# Altium integrated library Infineon_Power_Supply_Voltage_Regulator.IntLib: 346 symbols (part 12 of 16)
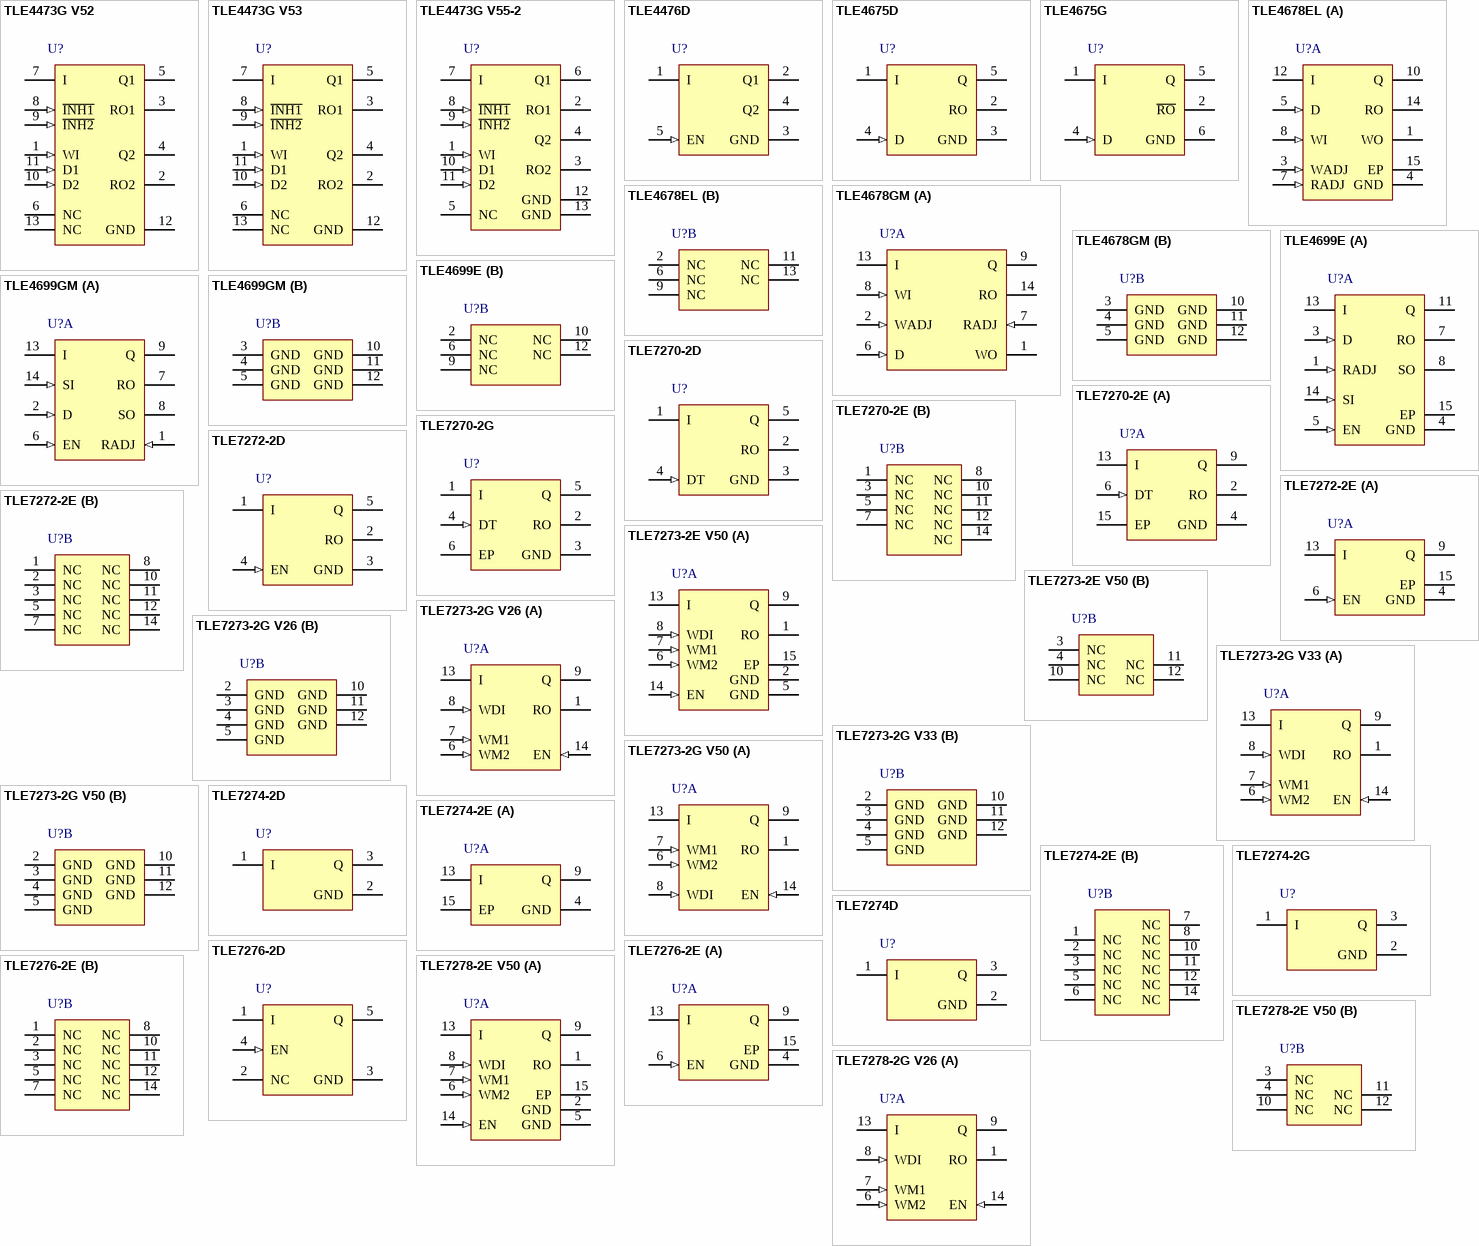
[diagram p20: symbols TLE4473G V52 to TLE7278-2G V26]

## TLE4678EL
designator U?
Low Drop Linear Voltage Regulator, 5.35 to 45 V Supply, 5 V Output, -40 to 150 degC, PG-SSOP-14, Reel, Green; Manufacturer: Infineon; PartNumber: TLE4678EL; Accuracy: 2 %; Dropout Voltage: 250 mV; Green: TRUE; Max. Output Current: 200 mA; Output Voltage: 5V; Regulator Type: single output; Typical Quiescent Current: 60 uA; DatasheetVersion: Rev. 1.1; PackageVersion: Oct-08; PackageReference: PG-SSOP-14; PackageDescription: 14-Pin Plastic (Green) Shrink Small Outline Package, 4.9 x 3.9 mm Body, 0.65 mm Pitch; Supplier 1: Mouser; Supplier Part Number 1: 726-TLE4678EL; Supplier 2: Digi-Key; Supplier Part Number 2: TLE4678EL-ND; Halogen-free: TRUE; Operating Range: 5.35 to 45 V; Packing: Reel; Mounting Technology: Surface Mount; ComponentLink1Description: Manufacturer URL; ComponentLink1URL: http://www.infineon.com/; ComponentLink2Description: Datasheet; ComponentLink2URL: http://www.infineon.com/dgdl/TLE4678_DS_11.pdf?folderId=db3a304318f3fe290118f5a433570040&fileId=db3a30432313ff5e01237603b059489e&location=en.Products.Automotive_ICs.Linear_Voltage_Regulators_for_Automotive-Applications.Linear_Voltage_Regulators_-_Selection_Table.DATASHEET.TLE4678_DS_11.pdf; ComponentLink3Description: Package Specification; ComponentLink3URL: http://www.infineon.com/dgdl/ILD1151-Data-Sheet-11-Infineon.pdf?folderId=db3a30431f848401011fcbf2ab4c04c4&fileId=db3a304330046413013031216f2b20e1&location=en.Products.LED_Drivers___Lighting_ICs.LED_Driver_for_Outdoor_Lighting___Indoor_Lighting.LED_Driver__Product_portfolio_and_Information.DATASHEET.ILD1151-Data-Sheet-11-Infineon.pdf
footprint INF-PG-SSOP-14_N (SOP, 14-Leads, Body 4.9x3.9mm, Pitch 0.65mm, Thermal Pad 3.2x2.75mm, IPC Medium Density)
footprint INF-PG-SSOP-14_L (SOP, 14-Leads, Body 4.9x3.9mm, Pitch 0.65mm, Thermal Pad 3.2x2.85mm, IPC High Density)
footprint INF-PG-SSOP-14_M (SOP, 14-Leads, Body 4.9x3.9mm, Pitch 0.65mm, Thermal Pad 3.2x2.55mm, IPC Low Density)
part A pins: 1 WO (oc) "Watchdog Output. Open collector output with an internal pull-up resistor to the output Q. An additional external pull-up resistor to the output Q is optional. Leave open if the watchdog function is not needed.", 3 WADJ (in) "Watchdog Activating Threshold Adjust. An external resistor to GND determines the watchdog activating threshold. Connect directly to GND for disabling the watchdog. Connect directly to GND if the watchdog function is not (See Datasheet)", 4 GND (power) "IC Ground. Interconnect with the exposed pad and heatsink area on PCB.", 5 D (in) "Reset Delay and Watchdog Timing. Connect a ceramic capacitor D (pin 6) to GND for reset delay and watchdog timing adjustment. Leave only open if both, the reset and watchdog function are not needed.", 7 RADJ (in) "Reset Switching Threshold Adjustment. For reset threshold adjustment connect to a voltage divider from output Q to GND. For triggering the reset at the internally determined threshold, connect this pin directly to GND. (See Datasheet)", 8 WI (in) "Watchdog Input. Positive edge triggered input, usable for mrcrocontroller monitoring. Connect to GND if the watchdog function is not needed.", 10 Q (power) "5 V Regulator Output. Block to GND with a capacitor close to the IC pins, respecting capacitance and ESR requirements given in the Chapter 4.2 Function Range.", 12 I (power) "Regulator Input and IC Supply. For compensating line influences, a capacitor to GND close to the IC pins is recommended.", 14 RO (oc) "Reset Output. Open collector output with an internal pull-up resistor to the output Q. An additional external pull-up resistor to the output Q is optional. Leave open if the reset function is not needed.", 15 EP (power) "Connect to heat sink area on PCB. Interconnect with GND."
part B pins: 2 NC "Internally not connected. Connection to GND on PCB recommended.", 6 NC "Internally not connected. Connection to GND on PCB recommended.", 9 NC "Internally not connected. Connection to GND on PCB recommended.", 11 NC "Internally not connected. Connection to GND on PCB recommended.", 13 NC "Internally not connected. Connection to GND on PCB recommended."

## TLE4678GM
designator U?
Low Drop Linear Voltage Regulator, 5 V Fixed Output Voltage, 5.35 to 45 V Supply, -40 to 150 degC, PG-DSO-14-37, Reel, Green; Manufacturer: Infineon; PartNumber: TLE4678GM; Accuracy: 2 %; Dropout Voltage: 250 mV; Green: TRUE; Max. Output Current: 200 mA; Output Voltage: 5V; Regulator Type: single output; Typical Quiescent Current: 60 uA; DatasheetVersion: Rev. 1.1; PackageVersion: Sep-07; PackageReference: PG-DSO-14-37; PackageDescription: 14-Pin Plastic (Green) Dual Small Outline Package, 8.65 x 3.9 mm Body, 1.27 mm Pitch; Supplier 1: Mouser; Supplier Part Number 1: 726-TLE4678GM; Supplier 2: Digi-Key; Supplier Part Number 2: TLE4678GMINTR-ND; Supplier 3: Digi-Key; Supplier Part Number 3: TLE4678GMINCT-ND; Supplier 4: Digi-Key; Supplier Part Number 4: TLE4678GMINDKR-ND; Halogen-free: TRUE; Operating Range: 5.35 to 45 V; Packing: Reel; Mounting Technology: Surface Mount; ComponentLink1Description: Manufacturer URL; ComponentLink1URL: http://www.infineon.com/; ComponentLink2Description: Datasheet; ComponentLink2URL: http://www.infineon.com/dgdl/TLE4678_DS_11.pdf?folderId=db3a304318f3fe290118f5a433570040&fileId=db3a30432313ff5e01237603b059489e&location=en.Products.Automotive_ICs.Linear_Voltage_Regulators_for_Automotive-Applications.Linear_Voltage_Regulators_-_Selection_Table.DATASHEET.TLE4678_DS_11.pdf; ComponentLink3Description: Package Specification; ComponentLink3URL: http://www.infineon.com/dgdl/BTS723GWDS11_2007_09_25.pdf?folderId=db3a304314dca389011537739e37155f&fileId=db3a304331c8f8560131dbfec21b0da9&sId=db3a30443d67b5ca013d854df2f133e5
footprint INF-PG-DSO-14-37_N (SOP, 14-Leads, Body 8.65x3.9mm, Pitch 1.27mm, IPC Medium Density)
footprint INF-PG-DSO-14-37_L (SOP, 14-Leads, Body 8.65x3.9mm, Pitch 1.27mm, IPC High Density)
footprint INF-PG-DSO-14-37_M (SOP, 14-Leads, Body 8.65x3.9mm, Pitch 1.27mm, IPC Low Density)
part A pins: 1 WO (oc) "Watchdog Output. Open collector output with an internal pull-up resistor to the output Q. An additional external pull-up resistor to the output Q is optional. Leave open if the watchdog function is not needed.", 2 WADJ (in) "Watchdog Activating Threshold Adjust. An external resistor to GND determines the watchdog activating threshold. Connect directly to GND for disabling the watchdog. Connect directly to GND if the watchdog function is not (See Datasheet)", 6 D (in) "Reset Delay and Watchdog Timing. Connect a ceramic capacitor D(pin 6) to GND for reset delay and watchdog timing adjustment. Leave only open if both, the reset and the watchdog function are not needed.", 7 RADJ (in) "Reset Switching Threshold Adjust. For reset threshold adjustment connect to a voltage divider from output Q to GND.For triggering the reset at the internally determined threshold, connect this pin directly to GND. Connect (See Datasheet)", 8 WI (in) "Watchdog Input. Positive edge triggered input, usable for microcontroller monitoring. Connect to GND if the watchdog function is not needed.", 9 Q (power) "5 V Regulator Output. Block to GND with a capacitor close to the IC pins, respecting capacitance and ESR requirements given in the Chapter 4.2 Functional Range.", 13 I (power) "Regulator Input and IC Supply. For compensating line influences, a capacitor to GND close to the IC pins is recommended.", 14 RO (oc) "Reset Output. Open collector output with an internal pull-up resistor to the output Q. An additional exteranl pull-up resistor to the output Q is optional. Leave open if the reset function is not needed."
part B pins: 3 GND (power) "IC Ground. Interconnect the GND pins on PCB. Connect to heat sink area.", 4 GND (power) "IC Ground. Interconnect the GND pins on PCB. Connect to heat sink area.", 5 GND (power) "IC Ground. Interconnect the GND pins on PCB. Connect to heat sink area.", 10 GND (power) "IC Ground. Interconnect the GND pins on PCB. Connect to heat sink area.", 11 GND (power) "IC Ground. Interconnect the GND pins on PCB. Connect to heat sink area.", 12 GND (power) "IC Ground. Interconnect the GND pins on PCB. Connect to heat sink area."

## TLE4699E
designator U?
Low Drop Linear Voltage Regulator, 5 V Fixed Output Voltage, 3.3 to 45 V Supply, -40 to 150 degC, PG-SSOP-14, Reel, Green; Manufacturer: Infineon; PartNumber: TLE4699E; Accuracy: 2 %; Dropout Voltage: 160 mV; Green: TRUE; Max. Output Current: 200 mA; Output Voltage: 5V; Regulator Type: single output; Typical Quiescent Current: 65 uA; DatasheetVersion: Rev. 1.0; PackageVersion: Oct-08; PackageReference: PG-SSOP-14; PackageDescription: 14-Pin Plastic (Green) Shrink Small Outline Package, 4.9 x 3.9 mm Body, 0.65 mm Pitch; Supplier 1: Mouser; Supplier Part Number 1: 726-TLE4699E; Supplier 2: Digi-Key; Supplier Part Number 2: TLE4699E-ND; Halogen-free: TRUE; Operating Range: 3.3 to 45 V; Packing: Reel; Mounting Technology: Surface Mount; ComponentLink1Description: Manufacturer URL; ComponentLink1URL: http://www.infineon.com/; ComponentLink2Description: Datasheet; ComponentLink2URL: http://www.infineon.com/dgdl/Linear-Voltage-Regulator-TLE4699-Data-Sheet-v-10-Infineon.pdf?folderId=db3a30431ff988150120802bce1d257a&fileId=db3a30432c64a60d012cc56bf1a96dd5&location=en.Products.Automotive_ICs.Linear_Voltage_Regulators_for_Automotive-Applications.Linear_Voltage_Regulators_-_Selection_Table.DATASHEET.Linear-Voltage-Regulator-TLE4699-Data-Sheet-v-10-Infineon.pdf; ComponentLink3Description: Package Specification; ComponentLink3URL: http://www.infineon.com/dgdl/ILD1151-Data-Sheet-11-Infineon.pdf?folderId=db3a30431f848401011fcbf2ab4c04c4&fileId=db3a304330046413013031216f2b20e1&location=en.Products.LED_Drivers___Lighting_ICs.LED_Driver_for_Outdoor_Lighting___Indoor_Lighting.LED_Driver__Product_portfolio_and_Information.DATASHEET.ILD1151-Data-Sheet-11-Infineon.pdf
footprint INF-PG-SSOP-14_N (SOP, 14-Leads, Body 4.9x3.9mm, Pitch 0.65mm, Thermal Pad 3.2x2.75mm, IPC Medium Density)
footprint INF-PG-SSOP-14_L (SOP, 14-Leads, Body 4.9x3.9mm, Pitch 0.65mm, Thermal Pad 3.2x2.85mm, IPC High Density)
footprint INF-PG-SSOP-14_M (SOP, 14-Leads, Body 4.9x3.9mm, Pitch 0.65mm, Thermal Pad 3.2x2.55mm, IPC Low Density)
part A pins: 1 RADJ (in) "Reset Threshold Adjust connect an external voltage divider to adjust reset threshold; connect to GND for using internal threshold", 3 D (in) "Reset Delay. Connect a ceramic capacitor to GND for reset delay time adjustment; Leave open, if the reset function is not needed.", 4 GND (power), 5 EN (in) "Enable high signal enables the regulator; low signal disables the regulator; connect to I if the Enable function is not needed", 7 RO (oc) "Reset Output open collector output; Leave open if the reset function is not needed", 8 SO (oc) "Sense Output open collector output; Leave open if the sense comparator is not needed", 11 Q (power) "Output. Connect to GND with a capacitor close to the IC terminals, respecting the values given for its capacitance CQ and ESR.", 13 I (power) "Input for compensating line influences, a capacitor to GND close to the IC terminals is recommended", 14 SI (in) "Sense Input. Connect to Q if the sense comparator is not needed", 15 EP (power) "Exposed Pad attach the exposed pad on package bottom to the heatsink area on circuit board; connect to GND"
part B pins: 2 NC, 6 NC, 9 NC, 10 NC, 12 NC

## TLE4699GM
designator U?
Low Drop Linear Voltage Regulator, 5 V Fixed Output Voltage, 3.3 to 45 V Supply, -40 to 150 degC, PG-DSO-14-37, Reel, Green; Manufacturer: Infineon; PartNumber: TLE4699GM; Accuracy: 2 %; Dropout Voltage: 160 mV; Green: TRUE; Max. Output Current: 200 mA; Output Voltage: 5V; Regulator Type: single output; Typical Quiescent Current: 65 uA; DatasheetVersion: Rev. 1.0; PackageVersion: Sep-07; PackageReference: PG-DSO-14-37; PackageDescription: 14-Pin Plastic (Green) Dual Small Outline Package, 8.65 x 3.9 mm Body, 1.27 mm Pitch; Supplier 1: Mouser; Supplier Part Number 1: 726-TLE4699GM; Supplier 2: Digi-Key; Supplier Part Number 2: TLE4699GM-ND; Halogen-free: TRUE; Operating Range: 3.3 to 45 V; Packing: Reel; Mounting Technology: Surface Mount; ComponentLink1Description: Manufacturer URL; ComponentLink1URL: http://www.infineon.com/; ComponentLink2Description: Datasheet; ComponentLink2URL: http://www.infineon.com/dgdl/Linear-Voltage-Regulator-TLE4699-Data-Sheet-v-10-Infineon.pdf?folderId=db3a30431ff988150120802bce1d257a&fileId=db3a30432c64a60d012cc56bf1a96dd5&location=en.Products.Automotive_ICs.Linear_Voltage_Regulators_for_Automotive-Applications.Linear_Voltage_Regulators_-_Selection_Table.DATASHEET.Linear-Voltage-Regulator-TLE4699-Data-Sheet-v-10-Infineon.pdf; ComponentLink3Description: Package Specification; ComponentLink3URL: http://www.infineon.com/dgdl/BTS723GWDS11_2007_09_25.pdf?folderId=db3a304314dca389011537739e37155f&fileId=db3a304331c8f8560131dbfec21b0da9&sId=db3a30443d67b5ca013d854df2f133e5
footprint INF-PG-DSO-14-37_N (SOP, 14-Leads, Body 8.65x3.9mm, Pitch 1.27mm, IPC Medium Density)
footprint INF-PG-DSO-14-37_L (SOP, 14-Leads, Body 8.65x3.9mm, Pitch 1.27mm, IPC High Density)
footprint INF-PG-DSO-14-37_M (SOP, 14-Leads, Body 8.65x3.9mm, Pitch 1.27mm, IPC Low Density)
part A pins: 1 RADJ (in) "Reset Threshold Adjust connect an external voltage divider to adjust reset threshold; connect to GND for using internal threshold", 2 D (in) "Reset Delay Timing connect a ceramic capacitor to GND for adjusting the reset delay time; leave open if the reset function is not needed", 6 EN (in) "Enable high signal enables the regulator; low signal disables the regulator; connect to I if the Enable function is not needed", 7 RO (oc) "Reset Output open collector output; external pull-up resistor required, respecting values given in Item 5.6.5; leave open if the reset function is not needed", 8 SO (oc) "Sense Output open collector output; external pull-up resistor required, respecting values given in Item 5.8.6; leave open if the sense comparator is not needed", 9 Q (power) "Output block to GND with a capacitor close to the IC terminals, respecting the values given for its capacitance CQ and ESR in the table “Functional Range” on Page 9", 13 I (power) "Input for compensating line influences, a capacitor to GND close to the IC terminals is recommended", 14 SI (in) "Sense Input  connect the voltage to be monitored; connect to Q if the sense comparator is not needed"
part B pins: 3 GND (power) "Ground connect all pins to PCB and heatsink area", 4 GND (power) "Ground connect all pins to PCB and heatsink area", 5 GND (power) "Ground connect all pins to PCB and heatsink area", 10 GND (power) "Ground connect all pins to PCB and heatsink area", 11 GND (power) "Ground connect all pins to PCB and heatsink area", 12 GND (power) "Ground connect all pins to PCB and heatsink area"

## TLE7270-2D
designator U?
5 V Low Drop Voltage Regulator, 5.5 to 42 V Supply, -40 to 150 degC, PG-TO252-5-11, Reel, Green; Manufacturer: Infineon; PartNumber: TLE7270-2D; Accuracy: 2 %; Dropout Voltage: 250 mV; Green: TRUE; Max. Output Current: 300 mA; Output Voltage: 5V; Regulator Type: single output; Typical Quiescent Current: 20 uA; DatasheetVersion: Rev. 1.01; PackageVersion: Nov-10; PackageReference: PG-TO252-5-11; PackageDescription: 5-Pin Plastic (Green) Transistor Single Outline Package, 6.5 x 6.12 mm Body, 1.14 mm Pitch; Supplier 1: Mouser; Supplier Part Number 1: 726-TLE7270-2D; Supplier 2: Digi-Key; Supplier Part Number 2: TLE7270-2D-ND; Halogen-free: TRUE; Operating Range: 5.5 to 42 V; Packing: Reel; Mounting Technology: Surface Mount; ComponentLink1Description: Manufacturer URL; ComponentLink1URL: http://www.infineon.com/; ComponentLink2Description: Datasheet; ComponentLink2URL: http://www.infineon.com/dgdl/TLE7270-2_DS_101%5B1%5D.pdf?folderId=db3a30431ddc9372011e26863f92474e&fileId=db3a30432239cccd0122c123f3c25954&location=en.Products.Automotive_ICs.Linear_Voltage_Regulators_for_Automotive-Applications.Linear_Voltage_Regulators_-_Selection_Table.DATASHEET.TLE7270-2_DS_101[1].pdf; ComponentLink3Description: Package Specification; ComponentLink3URL: http://www.infineon.com/dgdl/TLE7276-Data+Sheet-+v1_11.pdf?folderId=db3a304412b407950112b408e8c90004&fileId=db3a304412b407950112b436c53f66c8&sId=db3a30433db6f09f013dc0e43c0428c1
footprint INF-PG-TO252-5-11_N (DPAK, 5-Leads, Body 6.5x6.12mm, Pitch 1.14mm, IPC Medium Density)
footprint INF-PG-TO252-5-11_L (DPAK, 5-Leads, Body 6.5x6.12mm, Pitch 1.14mm, IPC High Density)
footprint INF-PG-TO252-5-11_M (DPAK, 5-Leads, Body 6.5x6.12mm, Pitch 1.14mm, IPC Low Density)
pins: 1 I (power) "Input block to ground directly at the IC with a ceramic capacitor", 2 RO (oc) "Reset Output open collector output with integrated pull-up resistor; optional external pull-up resistor of >= 10 k ohm to pin Q; leave open if reset function not needed", 3 GND (power) "Heat Slug internally connected to GND; connect to GND and heatsink area", 4 DT (in) "Delay Timing connect to GND or Q to choose the Power On Reset Delay Time", 5 Q (power) "Output block to ground with a capacitor close to the IC terminals, respecting the values given for its capacitance and ESR in "Functional Range" on Page 6"

## TLE7270-2E
designator U?
5 V Low Drop Voltage Regulator, 5.5 to 42 V Supply, -40 to 150 degC, PG-SSOP-14, Reel, Green; Manufacturer: Infineon; PartNumber: TLE7270-2E; Accuracy: 2 %; Dropout Voltage: 250 mV; Green: TRUE; Max. Output Current: 300 mA; Output Voltage: 5V; Regulator Type: single output; Typical Quiescent Current: 20 uA; DatasheetVersion: Rev. 1.01; PackageVersion: Oct-08; PackageReference: PG-SSOP-14; PackageDescription: 14-Pin Plastic (Green) Shrink Small Outline Package, 4.9 x 3.9 mm Body, 0.65 mm Pitch; Supplier 1: Mouser; Supplier Part Number 1: 726-TLE7270-2E; Supplier 2: Digi-Key; Supplier Part Number 2: TLE7270-2E-ND; Halogen-free: TRUE; Operating Range: 5.5 to 42 V; Packing: Reel; Mounting Technology: Surface Mount; ComponentLink1Description: Manufacturer URL; ComponentLink1URL: http://www.infineon.com/; ComponentLink2Description: Datasheet; ComponentLink2URL: http://www.infineon.com/dgdl/TLE7270-2_DS_101%5B1%5D.pdf?folderId=db3a304314dca3890115039cf70d0bf0&fileId=db3a30432239cccd0122f4809cf9565c&location=en.Products.Automotive_ICs.Linear_Voltage_Regulators_for_Automotive-Applications.Linear_Voltage_Regulators_-_Selection_Table.DATASHEET.TLE7270-2_DS_101[1].pdf; ComponentLink3Description: Package Specification; ComponentLink3URL: http://www.infineon.com/dgdl/ILD1151-Data-Sheet-11-Infineon.pdf?folderId=db3a30431f848401011fcbf2ab4c04c4&fileId=db3a304330046413013031216f2b20e1&location=en.Products.LED_Drivers___Lighting_ICs.LED_Driver_for_Outdoor_Lighting___Indoor_Lighting.LED_Driver__Product_portfolio_and_Information.DATASHEET.ILD1151-Data-Sheet-11-Infineon.pdf
footprint INF-PG-SSOP-14_N (SOP, 14-Leads, Body 4.9x3.9mm, Pitch 0.65mm, Thermal Pad 3.2x2.75mm, IPC Medium Density)
footprint INF-PG-SSOP-14_L (SOP, 14-Leads, Body 4.9x3.9mm, Pitch 0.65mm, Thermal Pad 3.2x2.85mm, IPC High Density)
footprint INF-PG-SSOP-14_M (SOP, 14-Leads, Body 4.9x3.9mm, Pitch 0.65mm, Thermal Pad 3.2x2.55mm, IPC Low Density)
part A pins: 2 RO (oc) "Reset Output open collector output with integrated pull-up resistor; optional external pull-up resistor of >= 10 k ohm to pin Q; leave open if reset function not needed", 4 GND (power) "Ground", 6 DT (in) "Delay Timing connect to GND or Q to choose the Power On Reset Delay Time", 9 Q (power) "Output block to ground with a capacitor close to the IC terminals, respecting the values given for its capacitance and ESR in “Functional Range” on Page 6", 13 I (power) "Input block to ground directly at the IC with a ceramic capacitor", 15 EP (power) "Exposed Pad connect to GND and heatsink area"
part B pins: 1 NC "non connected can be open or connected to GND", 3 NC "non connected can be open or connected to GND", 5 NC "non connected can be open or connected to GND", 7 NC "non connected can be open or connected to GND", 8 NC "non connected can be open or connected to GND", 10 NC "non connected can be open or connected to GND", 11 NC "non connected can be open or connected to GND", 12 NC "non connected can be open or connected to GND", 14 NC "non connected can be open or connected to GND"

## TLE7270-2G
designator U?
5 V Low Drop Voltage Regulator, 5.5 to 42 V Supply, -40 to 150 degC, PG-TO263-5-1, Reel, Green; Manufacturer: Infineon; PartNumber: TLE7270-2G; Accuracy: 2 %; Dropout Voltage: 250 mV; Green: TRUE; Max. Output Current: 300 mA; Output Voltage: 5V; Regulator Type: single output; Typical Quiescent Current: 20 uA; DatasheetVersion: Rev. 1.01; PackageVersion: Sep-08; PackageReference: PG-TO263-5-1; PackageDescription: 5-Pin Plastic (Green) Transistor Single Outline Package, 10 x 9.25 mm Body, 1.7 mm Pitch; Supplier 1: Mouser; Supplier Part Number 1: 726-TLE7270-2G; Supplier 2: Digi-Key; Supplier Part Number 2: TLE7270-2G-ND; Halogen-free: TRUE; Operating Range: 5.5 to 42 V; Packing: Reel; Mounting Technology: Surface Mount; ComponentLink1Description: Manufacturer URL; ComponentLink1URL: http://www.infineon.com/; ComponentLink2Description: Datasheet; ComponentLink2URL: http://www.infineon.com/dgdl/TLE7270-2_DS_101%5B1%5D.pdf?folderId=db3a304314dca3890115039cf70d0bf0&fileId=db3a30432239cccd0122f4809cf9565c&location=en.Products.Automotive_ICs.Linear_Voltage_Regulators_for_Automotive-Applications.Linear_Voltage_Regulators_-_Selection_Table.DATASHEET.TLE7270-2_DS_101[1].pdf; ComponentLink3Description: Package Specification; ComponentLink3URL: http://www.infineon.com/dgdl/TLE4675_DS10.pdf?folderId=db3a30431ddc9372011e26863f92474e&fileId=db3a30431ff9881501201fa645654e52&sId=db3a30433d68e984013d8b6677a5267d
footprint INF-PG-TO263-5-1_N (DPAK, 5-Leads, Body 10x9.25mm, Pitch 1.7mm, IPC Medium Density)
footprint INF-PG-TO263-5-1_L (DPAK, 5-Leads, Body 10x9.25mm, Pitch 1.7mm, IPC High Density)
footprint INF-PG-TO263-5-1_M (DPAK, 5-Leads, Body 10x9.25mm, Pitch 1.7mm, IPC Low Density)
pins: 1 I (power) "Input; block to ground directly at the IC with a ceramic capacitor", 2 RO (oc) "Reset Output; open collector output with integrated pull-up resistor; optional external pull-up resistor of >= 10 k ohm to pin Q; leave open if reset function not needed", 3 GND (power) "Ground; internally connected to heat slug", 4 DT (in) "Delay Timing; connect to GND or Q to choose the Power On Reset Delay Time", 5 Q (power) "Output; block to ground with a capacitor close to the IC terminals, respecting the values given for its capacitance and ESR in "Functional Range" on Page 6", 6 EP (power) "Heat Slug; internally connected to GND; connect to GND and heatsink area"

## TLE7272-2D
designator U?
5 V Low Drop Voltage Regulator, 5.5 to 42 V Supply, -40 to 150 degC, PG-TO252-5-11, Reel, Green; Manufacturer: Infineon; PartNumber: TLE7272-2D; Accuracy: 2 %; Dropout Voltage: 250 mV; Green: TRUE; Max. Output Current: 300 mA; Output Voltage: 5V; Regulator Type: single output; Typical Quiescent Current: 20 uA; DatasheetVersion: Rev. 1.0; PackageVersion: Nov-10; PackageReference: PG-TO252-5-11; PackageDescription: 5-Pin Plastic (Green) Transistor Single Outline Package, 6.5 x 6.12 mm Body, 1.14 mm Pitch; Supplier 1: Mouser; Supplier Part Number 1: 726-TLE7272-2D; Supplier 2: Digi-Key; Supplier Part Number 2: TLE7272-2D-ND; Halogen-free: TRUE; Operating Range: 5.5 to 42 V; Packing: Reel; Mounting Technology: Surface Mount; ComponentLink1Description: Manufacturer URL; ComponentLink1URL: http://www.infineon.com/; ComponentLink2Description: Datasheet; ComponentLink2URL: http://www.infineon.com/dgdl/TLE7272-2_DS_10.pdf?folderId=db3a304318f3fe290118f5a433570040&fileId=db3a304327b89750012801509d8437e2&location=en.Products.Automotive_ICs.Linear_Voltage_Regulators_for_Automotive-Applications.Linear_Voltage_Regulators_-_Selection_Table.DATASHEET.TLE7272-2_DS_10.pdf; ComponentLink3Description: Package Specification; ComponentLink3URL: http://www.infineon.com/dgdl/TLE7276-Data+Sheet-+v1_11.pdf?folderId=db3a304412b407950112b408e8c90004&fileId=db3a304412b407950112b436c53f66c8&sId=db3a30433db6f09f013dc0e43c0428c1
footprint INF-PG-TO252-5-11_N (DPAK, 5-Leads, Body 6.5x6.12mm, Pitch 1.14mm, IPC Medium Density)
footprint INF-PG-TO252-5-11_L (DPAK, 5-Leads, Body 6.5x6.12mm, Pitch 1.14mm, IPC High Density)
footprint INF-PG-TO252-5-11_M (DPAK, 5-Leads, Body 6.5x6.12mm, Pitch 1.14mm, IPC Low Density)
pins: 1 I (power) "Input block to ground directly at the IC with a ceramic capacitor", 2 RO (oc) "Reset Output open collector output with integrated pull-up resistor; optional external pull-up resistor of >= 10 k ohm to pin Q; leave open if reset function not needed", 3 GND (power) "Heat Slug internally connected to GND; connect to GND and heatsink area", 4 EN (in) "Enable Input high level input signal enables the IC; low level input signal disables the IC; integrated pull-down resistor", 5 Q (power) "Output block to ground with a capacitor close to the IC terminals, respecting the values given for its capacitance and ESR in “Functional Range?on Page 6"

## TLE7272-2E
designator U?
5 V Low Drop Voltage Regulator, 5.5 to 42 V Supply, -40 to 150 degC, PG-SSOP-14, Reel, Green; Manufacturer: Infineon; PartNumber: TLE7272-2E; Accuracy: 2 %; Dropout Voltage: 250 mV; Green: TRUE; Max. Output Current: 300 mA; Output Voltage: 5V; Regulator Type: single output; Typical Quiescent Current: 20 uA; DatasheetVersion: Rev. 1.0; PackageVersion: Oct-08; PackageReference: PG-SSOP-14; PackageDescription: 14-Pin Plastic (Green) Shrink Small Outline Package, 4.9 x 3.9 mm Body, 0.65 mm Pitch; Supplier 1: Mouser; Supplier Part Number 1: 726-TLE7272-2E; Supplier 2: Digi-Key; Supplier Part Number 2: TLE7272-2ETR-ND; Supplier 3: Digi-Key; Supplier Part Number 3: TLE7272-2ECT-ND; Supplier 4: Digi-Key; Supplier Part Number 4: TLE7272-2EDKR-ND; Halogen-free: TRUE; Operating Range: 5.5 to 42 V; Packing: Reel; Mounting Technology: Surface Mount; ComponentLink1Description: Manufacturer URL; ComponentLink1URL: http://www.infineon.com/; ComponentLink2Description: Datasheet; ComponentLink2URL: http://www.infineon.com/dgdl/TLE7272-2_DS_10.pdf?folderId=db3a304318f3fe290118f5a433570040&fileId=db3a304327b89750012801509d8437e2&location=en.Products.Automotive_ICs.Linear_Voltage_Regulators_for_Automotive-Applications.Linear_Voltage_Regulators_-_Selection_Table.DATASHEET.TLE7272-2_DS_10.pdf; ComponentLink3Description: Package Specification; ComponentLink3URL: http://www.infineon.com/dgdl/ILD1151-Data-Sheet-11-Infineon.pdf?folderId=db3a30431f848401011fcbf2ab4c04c4&fileId=db3a304330046413013031216f2b20e1&location=en.Products.LED_Drivers___Lighting_ICs.LED_Driver_for_Outdoor_Lighting___Indoor_Lighting.LED_Driver__Product_portfolio_and_Information.DATASHEET.ILD1151-Data-Sheet-11-Infineon.pdf
footprint INF-PG-SSOP-14_N (SOP, 14-Leads, Body 4.9x3.9mm, Pitch 0.65mm, Thermal Pad 3.2x2.75mm, IPC Medium Density)
footprint INF-PG-SSOP-14_L (SOP, 14-Leads, Body 4.9x3.9mm, Pitch 0.65mm, Thermal Pad 3.2x2.85mm, IPC High Density)
footprint INF-PG-SSOP-14_M (SOP, 14-Leads, Body 4.9x3.9mm, Pitch 0.65mm, Thermal Pad 3.2x2.55mm, IPC Low Density)
part A pins: 4 GND (power) "Ground", 6 EN (in) "Enable Input high level input signal enables the IC; low level input signal disables the IC; integrated pull-down resistor", 9 Q (power) "Output block to ground with a capacitor close to the IC terminals, respecting the values given for its capacitance and ESR in "Functional Range" on Page 6", 13 I (power) "Input block to ground directly at the IC with a ceramic capacitor", 15 EP (power) "Exposed Pad connect to GND and heatsink area"
part B pins: 1 NC "non connected can be open or connected to GND", 2 NC "non connected can be open or connected to GND", 3 NC "non connected can be open or connected to GND", 5 NC "non connected can be open or connected to GND", 7 NC "non connected can be open or connected to GND", 8 NC "non connected can be open or connected to GND", 10 NC "non connected can be open or connected to GND", 11 NC "non connected can be open or connected to GND", 12 NC "non connected can be open or connected to GND", 14 NC "non connected can be open or connected to GND"

## TLE7273-2E V50
designator U?
Low Drop Voltage Regulator, 5.5 to 45 V Supply, 5 V Output, -40 to 150 degC, PG-SSOP-14, Reel, Green; Manufacturer: Infineon; PartNumber: TLE7273-2E V50; Accuracy: 2 %; Dropout Voltage: 250 mV; Green: TRUE; Max. Output Current: 180 mA; Output Voltage: 5V; Regulator Type: single output; Typical Quiescent Current: 28 uA; DatasheetVersion: Rev. 1.2; PackageVersion: Oct-08; PackageReference: PG-SSOP-14; PackageDescription: 14-Pin Plastic (Green) Shrink Small Outline Package, 4.9 x 3.9 mm Body, 0.65 mm Pitch; Supplier 1: Mouser; Supplier Part Number 1: 726-TLE7273-2EV50; Supplier 2: Digi-Key; Supplier Part Number 2: TLE7273-2E V50-ND; Halogen-free: TRUE; Operating Range: 5.5 to 45 V; Packing: Reel; Mounting Technology: Surface Mount; ComponentLink1Description: Manufacturer URL; ComponentLink1URL: http://www.infineon.com/; ComponentLink2Description: Datasheet; ComponentLink2URL: http://www.infineon.com/dgdl/TLE7273-2_DS_12.pdf?folderId=db3a304318f3fe290118f5a433570040&fileId=db3a30431be39b97011be5467472008c&location=en.Products.Automotive_ICs.Linear_Voltage_Regulators_for_Automotive-Applications.Linear_Voltage_Regulators_-_Selection_Table.DATASHEET.TLE7273-2_DS_12.pdf; ComponentLink3Description: Package Specification; ComponentLink3URL: http://www.infineon.com/dgdl/ILD1151-Data-Sheet-11-Infineon.pdf?folderId=db3a30431f848401011fcbf2ab4c04c4&fileId=db3a304330046413013031216f2b20e1&location=en.Products.LED_Drivers___Lighting_ICs.LED_Driver_for_Outdoor_Lighting___Indoor_Lighting.LED_Driver__Product_portfolio_and_Information.DATASHEET.ILD1151-Data-Sheet-11-Infineon.pdf
footprint INF-PG-SSOP-14_N (SOP, 14-Leads, Body 4.9x3.9mm, Pitch 0.65mm, Thermal Pad 3.2x2.75mm, IPC Medium Density)
footprint INF-PG-SSOP-14_L (SOP, 14-Leads, Body 4.9x3.9mm, Pitch 0.65mm, Thermal Pad 3.2x2.85mm, IPC High Density)
footprint INF-PG-SSOP-14_M (SOP, 14-Leads, Body 4.9x3.9mm, Pitch 0.65mm, Thermal Pad 3.2x2.55mm, IPC Low Density)
part A pins: 1 RO (oc) "Reset Output integrated 20 kOhm pull-up resistor; leave open if not needed", 2 GND (power) "Ground connect to GND", 5 GND (power) "Ground connect to GND", 6 WM2 (in) "Watchdog Mode Bit 2 watchdog and reset mode selection, see Figure 5", 7 WM1 (in) "Watchdog Mode Bit 1 watchdog and reset mode selection, see Figure 5", 8 WDI (in) "Watchdog Input trigger input for watchdog pulses; pull down to GND if not needed and turn off the watchdog with WM1 and WM2 pin", 9 Q (power) "Output Voltage block to GND with a ceramic capacitor close to the IC terminal", 13 I (power) "Input Voltage block to ground directly at the IC with a 100 nF ceramic capacitor", 14 EN (in) "Enable Input low level disables the IC; integrated pull-down resistor", 15 EP (power) "Exposed Pad connect to heatsink area; connect to GND on PCB"
part B pins: 3 NC "not connected leave open or connect to GND", 4 NC "not connected leave open or connect to GND", 10 NC "not connected leave open or connect to GND", 11 NC "not connected leave open or connect to GND", 12 NC "not connected leave open or connect to GND"

## TLE7273-2G V26
designator U?
Low Drop Voltage Regulator, 4.5 to 45 V Supply, 2.6 V Output, -40 to 150 degC, PG-DSO-14-37, Reel, Green; Manufacturer: Infineon; PartNumber: TLE7273-2G V26; Accuracy: 2 %; Dropout Voltage: 250 mV; Green: TRUE; Max. Output Current: 180 mA; Output Voltage: 2.6V; Regulator Type: single output; Typical Quiescent Current: 28 uA; DatasheetVersion: Rev. 1.2; PackageVersion: Sep-07; PackageReference: PG-DSO-14-37; PackageDescription: 14-Pin Plastic (Green) Dual Small Outline Package, 8.65 x 3.9 mm Body, 1.27 mm Pitch; Supplier 1: Mouser; Supplier Part Number 1: 726-TLE7273-2GV26; Supplier 2: Digi-Key; Supplier Part Number 2: TLE7273-2G V26-ND; Halogen-free: TRUE; Operating Range: 4.5 to 45 V; Packing: Reel; Mounting Technology: Surface Mount; ComponentLink1Description: Manufacturer URL; ComponentLink1URL: http://www.infineon.com/; ComponentLink2Description: Datasheet; ComponentLink2URL: http://www.infineon.com/dgdl/TLE7273-2_DS_12.pdf?folderId=db3a304318f3fe290118f5a433570040&fileId=db3a30431be39b97011be5467472008c&location=en.Products.Automotive_ICs.Linear_Voltage_Regulators_for_Automotive-Applications.Linear_Voltage_Regulators_-_Selection_Table.DATASHEET.TLE7273-2_DS_12.pdf; ComponentLink3Description: Package Specification; ComponentLink3URL: http://www.infineon.com/dgdl/BTS723GWDS11_2007_09_25.pdf?folderId=db3a304314dca389011537739e37155f&fileId=db3a304331c8f8560131dbfec21b0da9&sId=db3a30443d67b5ca013d854df2f133e5
footprint INF-PG-DSO-14-37_N (SOP, 14-Leads, Body 8.65x3.9mm, Pitch 1.27mm, IPC Medium Density)
footprint INF-PG-DSO-14-37_L (SOP, 14-Leads, Body 8.65x3.9mm, Pitch 1.27mm, IPC High Density)
footprint INF-PG-DSO-14-37_M (SOP, 14-Leads, Body 8.65x3.9mm, Pitch 1.27mm, IPC Low Density)
part A pins: 1 RO (oc) "Reset Output, open drain output", 6 WM2 (in) "Watchdog Mode Bit 2 watchdog and reset mode selection,connect to Q or GND", 7 WM1 (in) "Watchdog Mode Bit 1, watchdog and Reset mode selection, connect to Q or GND", 8 WDI (in) "Watchdog Input, trigger input for watchdog pulses;  pull down to GND if not needed and turn off the watchdog with WM1 and WM2 pin", 9 Q (power) "Output Voltage, block to GND with a ceramic capacitor close to the IC terminals, respecting the  values given for its capacitance and ESR in "Functional Range" on Page 7", 13 I (power) "Input Voltage, block to ground directly at the IC with a 100 nF ceramic capacitor", 14 EN (in) "Enable Input, low level disables the IC; integrated pull-down resistor to GND"
part B pins: 2 GND (power) "Ground, connect pin 2 and 3 to GND; connect pin 4-5, 10-12 to PCB heat sink area with GND potential", 3 GND (power) "Ground, connect pin 2 and 3 to GND; connect pin 4-5, 10-12 to PCB heat sink area with GND potential", 4 GND (power) "Ground, connect pin 2 and 3 to GND; connect pin 4-5, 10-12 to PCB heat sink area with GND potential", 5 GND (power) "Ground, connect pin 2 and 3 to GND; connect pin 4-5, 10-12 to PCB heat sink area with GND potential", 10 GND (power) "Ground, connect pin 2 and 3 to GND; connect pin 4-5, 10-12 to PCB heat sink area with GND potential", 11 GND (power) "Ground, connect pin 2 and 3 to GND; connect pin 4-5, 10-12 to PCB heat sink area with GND potential", 12 GND (power) "Ground, connect pin 2 and 3 to GND; connect pin 4-5, 10-12 to PCB heat sink area with GND potential"

## TLE7273-2G V33
designator U?
Low Drop Voltage Regulator, 4.2 to 45 V Supply, 3.3 V Output, -40 to 150 degC, PG-DSO-14-37, Reel, Green; Manufacturer: Infineon; PartNumber: TLE7273-2G V33; Accuracy: 2 %; Dropout Voltage: 250 mV; Green: TRUE; Max. Output Current: 180 mA; Output Voltage: 3.3V; Regulator Type: single output; Typical Quiescent Current: 28 uA; DatasheetVersion: Rev. 1.2; PackageVersion: Sep-07; PackageReference: PG-DSO-14-37; PackageDescription: 14-Pin Plastic (Green) Dual Small Outline Package, 8.65 x 3.9 mm Body, 1.27 mm Pitch; Supplier 1: Mouser; Supplier Part Number 1: 726-TLE72732GV33; Supplier 2: Digi-Key; Supplier Part Number 2: TLE7273-2G V33-ND; Halogen-free: TRUE; Operating Range: 4.2 to 45 V; Packing: Reel; Mounting Technology: Surface Mount; ComponentLink1Description: Manufacturer URL; ComponentLink1URL: http://www.infineon.com/; ComponentLink2Description: Datasheet; ComponentLink2URL: http://www.infineon.com/dgdl/TLE7273-2_DS_12.pdf?folderId=db3a304318f3fe290118f5a433570040&fileId=db3a30431be39b97011be5467472008c&location=en.Products.Automotive_ICs.Linear_Voltage_Regulators_for_Automotive-Applications.Linear_Voltage_Regulators_-_Selection_Table.DATASHEET.TLE7273-2_DS_12.pdf; ComponentLink3Description: Package Specification; ComponentLink3URL: http://www.infineon.com/dgdl/BTS723GWDS11_2007_09_25.pdf?folderId=db3a304314dca389011537739e37155f&fileId=db3a304331c8f8560131dbfec21b0da9&sId=db3a30443d67b5ca013d854df2f133e5
footprint INF-PG-DSO-14-37_N (SOP, 14-Leads, Body 8.65x3.9mm, Pitch 1.27mm, IPC Medium Density)
footprint INF-PG-DSO-14-37_L (SOP, 14-Leads, Body 8.65x3.9mm, Pitch 1.27mm, IPC High Density)
footprint INF-PG-DSO-14-37_M (SOP, 14-Leads, Body 8.65x3.9mm, Pitch 1.27mm, IPC Low Density)
part A pins: 1 RO (oc) "Reset Output, open drain output", 6 WM2 (in) "Watchdog Mode Bit 2 watchdog and reset mode selection,connect to Q or GND", 7 WM1 (in) "Watchdog Mode Bit 1, watchdog and Reset mode selection, connect to Q or GND", 8 WDI (in) "Watchdog Input, trigger input for watchdog pulses;  pull down to GND if not needed and turn off the watchdog with WM1 and WM2 pin", 9 Q (power) "Output Voltage, block to GND with a ceramic capacitor close to the IC terminals, respecting the  values given for its capacitance and ESR in "Functional Range" on Page 7", 13 I (power) "Input Voltage, block to ground directly at the IC with a 100 nF ceramic capacitor", 14 EN (in) "Enable Input, low level disables the IC; integrated pull-down resistor to GND"
part B pins: 2 GND (power) "Ground, connect pin 2 and 3 to GND; connect pin 4-5, 10-12 to PCB heat sink area with GND potential", 3 GND (power) "Ground, connect pin 2 and 3 to GND; connect pin 4-5, 10-12 to PCB heat sink area with GND potential", 4 GND (power) "Ground, connect pin 2 and 3 to GND; connect pin 4-5, 10-12 to PCB heat sink area with GND potential", 5 GND (power) "Ground, connect pin 2 and 3 to GND; connect pin 4-5, 10-12 to PCB heat sink area with GND potential", 10 GND (power) "Ground, connect pin 2 and 3 to GND; connect pin 4-5, 10-12 to PCB heat sink area with GND potential", 11 GND (power) "Ground, connect pin 2 and 3 to GND; connect pin 4-5, 10-12 to PCB heat sink area with GND potential", 12 GND (power) "Ground, connect pin 2 and 3 to GND; connect pin 4-5, 10-12 to PCB heat sink area with GND potential"

## TLE7273-2G V50
designator U?
Low Drop Voltage Regulator, 5.5 to 45 V Supply, 5 V Output, -40 to 150 degC, PG-DSO-14-37, Reel, Green; Manufacturer: Infineon; PartNumber: TLE7273-2G V50; Accuracy: 2 %; Dropout Voltage: 250 mV; Green: TRUE; Max. Output Current: 180 mA; Output Voltage: 5V; Regulator Type: single output; Typical Quiescent Current: 28 uA; DatasheetVersion: Rev. 1.2; PackageVersion: Sep-07; PackageReference: PG-DSO-14-37; PackageDescription: 14-Pin Plastic (Green) Dual Small Outline Package, 8.65 x 3.9 mm Body, 1.27 mm Pitch; Supplier 1: Mouser; Supplier Part Number 1: 726-TLE72732GV50; Supplier 2: Digi-Key; Supplier Part Number 2: TLE7273-2G V50INTR-ND; Supplier 3: Digi-Key; Supplier Part Number 3: TLE7273-2G V50INCT-ND; Supplier 4: Digi-Key; Supplier Part Number 4: TLE7273-2G V50INDKR-ND; Halogen-free: TRUE; Operating Range: 5.5 to 45 V; Packing: Reel; Mounting Technology: Surface Mount; ComponentLink1Description: Manufacturer URL; ComponentLink1URL: http://www.infineon.com/; ComponentLink2Description: Datasheet; ComponentLink2URL: http://www.infineon.com/dgdl/TLE7273-2_DS_12.pdf?folderId=db3a304318f3fe290118f5a433570040&fileId=db3a30431be39b97011be5467472008c&location=en.Products.Automotive_ICs.Linear_Voltage_Regulators_for_Automotive-Applications.Linear_Voltage_Regulators_-_Selection_Table.DATASHEET.TLE7273-2_DS_12.pdf; ComponentLink3Description: Package Specification; ComponentLink3URL: http://www.infineon.com/dgdl/BTS723GWDS11_2007_09_25.pdf?folderId=db3a304314dca389011537739e37155f&fileId=db3a304331c8f8560131dbfec21b0da9&sId=db3a30443d67b5ca013d854df2f133e5
footprint INF-PG-DSO-14-37_N (SOP, 14-Leads, Body 8.65x3.9mm, Pitch 1.27mm, IPC Medium Density)
footprint INF-PG-DSO-14-37_L (SOP, 14-Leads, Body 8.65x3.9mm, Pitch 1.27mm, IPC High Density)
footprint INF-PG-DSO-14-37_M (SOP, 14-Leads, Body 8.65x3.9mm, Pitch 1.27mm, IPC Low Density)
part A pins: 1 RO (oc), 6 WM2 (in) "Watchdog Mode Bit 2 watchdog and reset mode selection, see Figure 5; connect to Q or GND", 7 WM1 (in) "Watchdog Mode Bit 1 watchdog and Reset mode selection, see Figure 5; connect to Q or GND", 8 WDI (in) "Watchdog Input trigger input for watchdog pulses; pull down to GND if not needed and turn off the watchdog with WM1 and WM2 pin", 9 Q (power) "Output Voltage block to GND with a ceramic capacitor close to the IC terminals, respecting the values given for its capacitance CQ and ESR in “Functional Range” on Page 7", 13 I (power) "Input Voltage block to ground directly at the IC with a 100 nF ceramic capacitor", 14 EN (in) "Enable Input low level disables the IC; integrated pull-down resistor to GND"
part B pins: 2 GND (power) "Ground connect pin 2 and 3 to GND; connect pin 4-5, 10-12 to PCB heat sink area with GND potential", 3 GND (power) "Ground connect pin 2 and 3 to GND; connect pin 4-5, 10-12 to PCB heat sink area with GND potential", 4 GND (power) "Ground connect pin 2 and 3 to GND; connect pin 4-5, 10-12 to PCB heat sink area with GND potential", 5 GND (power) "Ground connect pin 2 and 3 to GND; connect pin 4-5, 10-12 to PCB heat sink area with GND potential", 10 GND (power) "Ground connect pin 2 and 3 to GND; connect pin 4-5, 10-12 to PCB heat sink area with GND potential", 11 GND (power) "Ground connect pin 2 and 3 to GND; connect pin 4-5, 10-12 to PCB heat sink area with GND potential", 12 GND (power) "Ground connect pin 2 and 3 to GND; connect pin 4-5, 10-12 to PCB heat sink area with GND potential"

## TLE7274-2D
designator U?
5 V Low Drop Voltage Regluator, 5.5 to 42 V Supply, -40 to 150 degC, PG-TO252-3-11, Reel, Green; Manufacturer: Infineon; PartNumber: TLE7274-2D; Accuracy: 2 %; Dropout Voltage: 250 mV; Green: TRUE; Max. Output Current: 300 mA; Output Voltage: 5V; Regulator Type: single output; Typical Quiescent Current: 20 uA; DatasheetVersion: Rev. 1.01; PackageVersion: Dec-06; PackageReference: PG-TO252-3-11; PackageDescription: 3-Pin Plastic (Green) Transistor Single Outline Package, 6.5 x 6.12 mm Body, 2.28 mm Pitch; Supplier 1: Mouser; Supplier Part Number 1: 726-TLE7274-2D; Supplier 2: Digi-Key; Supplier Part Number 2: TLE7274-2D-ND; Halogen-free: TRUE; Operating Range: 5.5 to 42 V; Packing: Reel; Mounting Technology: Surface Mount; ComponentLink1Description: Manufacturer URL; ComponentLink1URL: http://www.infineon.com/; ComponentLink2Description: Datasheet; ComponentLink2URL: http://www.infineon.com/dgdl/TLE7274-2_DS_101.pdf?folderId=db3a30431ff988150120802bce1d257a&fileId=db3a30432b4ec641012b532895462dba&location=en.Products.Automotive_ICs.Linear_Voltage_Regulators_for_Automotive-Applications.Linear_Voltage_Regulators_-_Selection_Table.DATASHEET.TLE7274-2_DS_101.pdf; ComponentLink3Description: Package Specification; ComponentLink3URL: http://www.infineon.com/dgdl/BTS142_DS_13.pdf?folderId=db3a3043163797a6011667aa084c0e01&fileId=db3a3043163797a6011667ac98be0e02&location=en.Products.Automotive_ICs.Smart_High-_and_Low-Side_Switches.HITFET___TEMPFET__-_Smart_Low-Side_Switches.DATASHEET.BTS142_DS_13.pdf
footprint INF-PG-TO252-3-11_N (DPAK, 3-Leads, Body 6.5x6.12mm, Pitch 2.28mm, IPC Medium Density)
footprint INF-PG-TO252-3-11_L (DPAK, 3-Leads, Body 6.5x6.12mm, Pitch 2.28mm, IPC High Density)
footprint INF-PG-TO252-3-11_M (DPAK, 3-Leads, Body 6.5x6.12mm, Pitch 2.28mm, IPC Low Density)
pins: 1 I (power), 2 GND (power), 3 Q (power)

## TLE7274-2E
designator U?
5 V Low Drop Voltage Regluator, 5.5 to 42 V Supply, -40 to 150 degC, PG-SSOP-14, Reel, Green; Manufacturer: Infineon; PartNumber: TLE7274-2E; Accuracy: 2 %; Dropout Voltage: 250 mV; Green: TRUE; Max. Output Current: 300 mA; Output Voltage: 5V; Regulator Type: single output; Typical Quiescent Current: 20 uA; DatasheetVersion: Rev. 1.01; PackageVersion: Oct-08; PackageReference: PG-SSOP-14; PackageDescription: 14-Pin Plastic (Green) Shrink Small Outline Package, 4.9 x 3.9 mm Body, 0.65 mm Pitch; Supplier 1: Mouser; Supplier Part Number 1: 726-TLE7274-2E; Supplier 2: Digi-Key; Supplier Part Number 2: TLE7274-2E-ND; Halogen-free: TRUE; Operating Range: 5.5 to 42 V; Packing: Reel; Mounting Technology: Surface Mount; ComponentLink1Description: Manufacturer URL; ComponentLink1URL: http://www.infineon.com/; ComponentLink2Description: Datasheet; ComponentLink2URL: http://www.infineon.com/dgdl/TLE7274-2_DS_101.pdf?folderId=db3a30431ff988150120802bce1d257a&fileId=db3a30432b4ec641012b532895462dba&location=en.Products.Automotive_ICs.Linear_Voltage_Regulators_for_Automotive-Applications.Linear_Voltage_Regulators_-_Selection_Table.DATASHEET.TLE7274-2_DS_101.pdf; ComponentLink3Description: Package Specification; ComponentLink3URL: http://www.infineon.com/dgdl/ILD1151-Data-Sheet-11-Infineon.pdf?folderId=db3a30431f848401011fcbf2ab4c04c4&fileId=db3a304330046413013031216f2b20e1&location=en.Products.LED_Drivers___Lighting_ICs.LED_Driver_for_Outdoor_Lighting___Indoor_Lighting.LED_Driver__Product_portfolio_and_Information.DATASHEET.ILD1151-Data-Sheet-11-Infineon.pdf
footprint INF-PG-SSOP-14_N (SOP, 14-Leads, Body 4.9x3.9mm, Pitch 0.65mm, Thermal Pad 3.2x2.75mm, IPC Medium Density)
footprint INF-PG-SSOP-14_L (SOP, 14-Leads, Body 4.9x3.9mm, Pitch 0.65mm, Thermal Pad 3.2x2.85mm, IPC High Density)
footprint INF-PG-SSOP-14_M (SOP, 14-Leads, Body 4.9x3.9mm, Pitch 0.65mm, Thermal Pad 3.2x2.55mm, IPC Low Density)
part A pins: 4 GND (power) "Ground", 9 Q (power) "Output  block to GND with a capacitor close to the IC terminals, respecting the values given for its capacitance CQ and ESR in the table “Functional Range” on Page 8", 13 I (power) "Input for compensating line influences, a capacitor to GND close to the IC terminals is recommended", 15 EP (power) "Exposed Pad connect to heatsink area; connect with GND on PCB"
part B pins: 1 NC "not connected leave open or connect to GND", 2 NC "not connected leave open or connect to GND", 3 NC "not connected leave open or connect to GND", 5 NC "not connected leave open or connect to GND", 6 NC "not connected leave open or connect to GND", 7 NC "not connected leave open or connect to GND", 8 NC "not connected leave open or connect to GND", 10 NC "not connected leave open or connect to GND", 11 NC "not connected leave open or connect to GND", 12 NC "not connected leave open or connect to GND", 14 NC "not connected leave open or connect to GND"

## TLE7274-2G
designator U?
5 V Low Drop Voltage Regluator, 5.5 to 42 V Supply, -40 to 150 degC, PG-TO263-3-2, Reel, Green; Manufacturer: Infineon; PartNumber: TLE7274-2G; Accuracy: 2 %; Dropout Voltage: 250 mV; Green: TRUE; Max. Output Current: 300 mA; Output Voltage: 5V; Regulator Type: single output; Typical Quiescent Current: 20 uA; DatasheetVersion: Rev. 1.01; PackageVersion: Jul-09; PackageReference: PG-TO263-3-2; PackageDescription: 3-Pin Plastic (Green) Transistor Single Outline Package, 10 x 9.25 mm Body, 2.54 mm Pitch; Supplier 1: Mouser; Supplier Part Number 1: 726-TLE7274-2G; Supplier 2: Digi-Key; Supplier Part Number 2: TLE7274-2G-ND; Halogen-free: TRUE; Operating Range: 5.5 to 42 V; Packing: Reel; Mounting Technology: Surface Mount; ComponentLink1Description: Manufacturer URL; ComponentLink1URL: http://www.infineon.com/; ComponentLink2Description: Datasheet; ComponentLink2URL: http://www.infineon.com/dgdl/TLE7274-2_DS_101.pdf?folderId=db3a30431ff988150120802bce1d257a&fileId=db3a30432b4ec641012b532895462dba&location=en.Products.Automotive_ICs.Linear_Voltage_Regulators_for_Automotive-Applications.Linear_Voltage_Regulators_-_Selection_Table.DATASHEET.TLE7274-2_DS_101.pdf; ComponentLink3Description: Package Specification; ComponentLink3URL: http://www.infineon.com/dgdl/BTS141TC_DS_10.pdf?folderId=db3a3043163797a6011667aa084c0e01&fileId=db3a3043242ebc9e01242f43f58b003e&location=en.Products.Automotive_ICs.Smart_High-_and_Low-Side_Switches.HITFET___TEMPFET__-_Smart_Low-Side_Switches.DATASHEET.BTS141TC_DS_10.pdf
footprint INF-PG-TO263-3-2_N (DPAK, 3-Leads, Body 10x9.25mm, Pitch 2.54mm, IPC Medium Density)
footprint INF-PG-TO263-3-2_L (DPAK, 3-Leads, Body 10x9.25mm, Pitch 2.54mm, IPC High Density)
footprint INF-PG-TO263-3-2_M (DPAK, 3-Leads, Body 10x9.25mm, Pitch 2.54mm, IPC Low Density)
pins: 1 I (power), 2 GND (power), 3 Q (power)